# Altium footprint library SAMTEC-FTSH-105-01-X-D.PcbLib: 2 footprints
Each footprint in its own frame and in the unit in brackets; x right, y up, seen from the top. Pads: shape width x height; smd on the part's side, far side on the other; paste and mask are expansions set on the pad; w line width, h text height; cw(c..) or ccw(c..) is an arc to the next point about the centre after c.
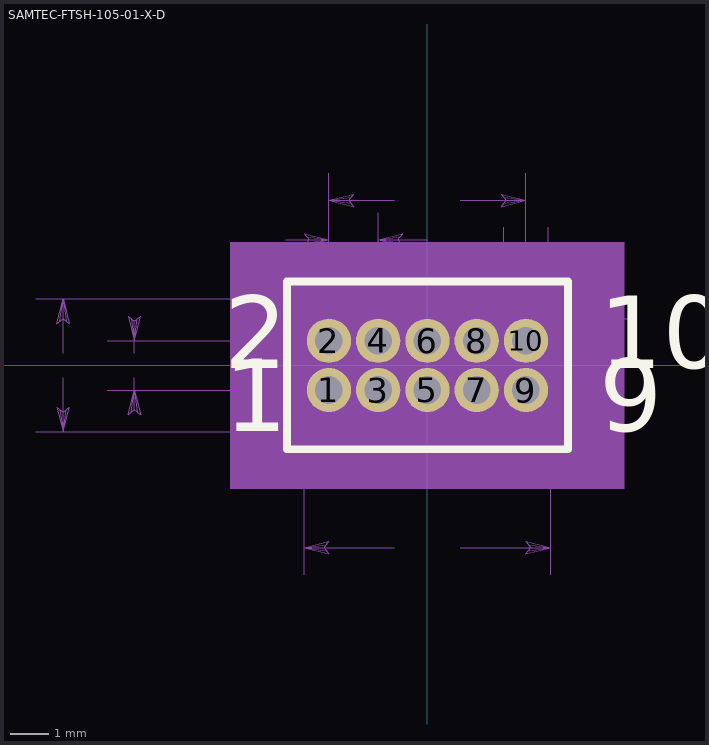
[diagram p0: the footprints below, top view; thin cyan lines are the x and y axes]

## PCBComponent_1 [mil]

## SAMTEC-FTSH-105-01-X-D [mil]
pads (10):
  round 45 hole 27.95: 1(-100,-25) 2(-100,25) 3(-50,-25) 4(-50,25) 5(0,-25) 6(0,25) 7(50,-25) 8(50,25) 9(100,-25) 10(100,25)
Top Overlay:
  lines w7.87: -142.72,-85.24 142.72,-85.24 142.72,85.24 -142.72,85.24 -142.72,-85.24
  text "10" at 174.62,-2.83 h73.82
  text "9" at 174.64,-66.89 h73.82
  text "2" at -206.43,-2.82 h73.82
  text "1" at -206.12,-66.88 h73.82
Top Solder:
  circle w0: c100,25 r24.51
  circle w0: c100,-25 r24.51
  circle w0: c50,25 r24.51
  circle w0: c50,-25 r24.51
  circle w0: c0,25 r24.51
  circle w0: c0,-25 r24.51
  circle w0: c-50,25 r24.51
  circle w0: c-50,-25 r24.51
  circle w0: c-100,25 r24.51
  circle w0: c-100,-25 r24.51
Bottom Solder:
  circle w0: c100,25 r24.51
  circle w0: c100,-25 r24.51
  circle w0: c50,25 r24.51
  circle w0: c50,-25 r24.51
  circle w0: c0,25 r24.51
  circle w0: c0,-25 r24.51
  circle w0: c-50,25 r24.51
  circle w0: c-50,-25 r24.51
  circle w0: c-100,25 r24.51
  circle w0: c-100,-25 r24.51
Mechanical 4:
  drawing of 494 lines, arcs and shapes, not listed
  text "1.143" at 176.7,97.76 h73.82
  text "1.143" at 154.23,10.19 h73.82
  text "10" at 174.87,-2.82 h73.82
  text "9" at 174.85,-66.96 h73.82
  text "5.080" at -25.99,152.74 h73.82
  text "6.350" at -26.02,-200.12 h73.82
  text "1.270" at -203.69,112.79 h73.82
  text "1.270" at -323.76,-14.85 h73.82
  text "2" at -206.23,-2.83 h73.82
  text "1" at -206.18,-66.89 h73.82
  text "3.429" at -396.11,-14.84 h73.82
  text "1.143" at 176.7,97.76 h73.82
  text "1.143" at 154.23,10.19 h73.82
  text "10" at 174.87,-2.82 h73.82
  text "9" at 174.85,-66.96 h73.82
  text "5.080" at -25.99,152.74 h73.82
  text "6.350" at -26.02,-200.12 h73.82
  text "1.270" at -203.69,112.79 h73.82
  text "1.270" at -323.76,-14.85 h73.82
  text "2" at -206.23,-2.83 h73.82
  text "1" at -206.18,-66.89 h73.82
  text "3.429" at -396.11,-14.84 h73.82
Mechanical 16:
  region: -126.97,-69.49 -126.97,69.49 126.97,69.49 126.97,-69.49